# Altium integrated library HLK-PM03_2020.IntLib: 1 symbol
Pins are listed as number, name and electrical type; pins without a type are passive.

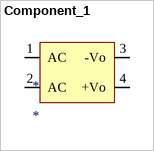
[diagram p0: symbol Component_1]

## Component_1
designator *
footprint PCBComponent_1
pins: 1 AC, 2 AC, 3 -Vo, 4 +Vo